# EAGLE library part ADC-MCP3424 (library ds_ic_peripherals)
18-Bit, Multi-Channel ΔΣ Analog-to-Digital Converter with I2C™ Interface and On-Board Reference
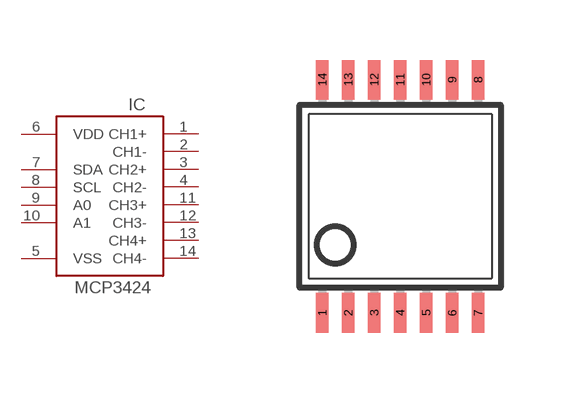
[diagram p81: symbol with the pads of TSSOP14; footprint TSSOP14]

Designator prefix IC

## ADC-MCP3424-E/ST  [TSSOP14]
1  CH1+
2  CH1-
3  CH2+
4  CH2-
5  VSS
6  VDD
7  SDA
8  SCL
9  A0
10  A1
11  CH3+
12  CH3-
13  CH4+
14  CH4-

## Footprint TSSOP14 (pad centres in mm)
Thin Shrink Small Outline Plastic 14 MAX3223-MAX3243.pdf
smd 0.305 x 0.991: 1 -1.95,-2.918; 2 -1.3,-2.918; 3 -0.65,-2.918; 4 0,-2.918; 5 0.65,-2.918; 6 1.3,-2.918; 7 1.95,-2.918; 8 1.95,2.918; 9 1.3,2.918; 10 0.65,2.918; 11 0,2.918; 12 -0.65,2.918; 13 -1.3,2.918; 14 -1.95,2.918